# Altium schematic symbol library SCH - MCU - ATSAM - MICROCHIP SAMD11D14A-SSU SOIC20.SchLib: 1 symbol
Pins are listed as number, name and electrical type; pins without a type are passive.

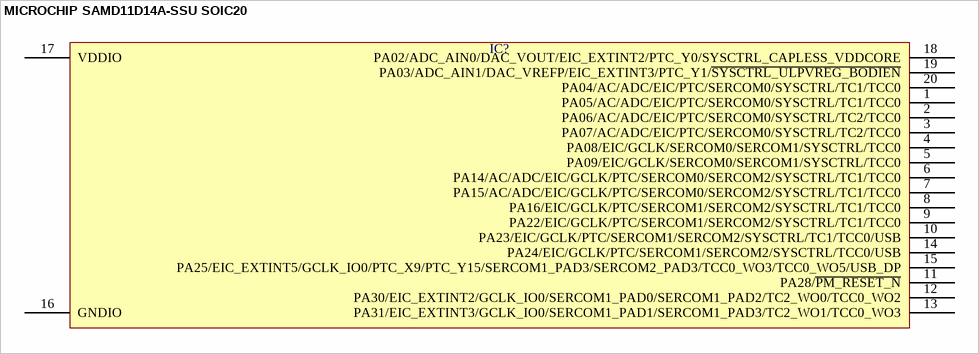
[diagram p0: symbol MICROCHIP SAMD11D14A-SSU SOIC20]

## MICROCHIP SAMD11D14A-SSU SOIC20
designator IC?  (value not drawn)
pins: 1 PA05/AC/ADC/EIC/PTC/SERCOM0/SYSCTRL/TC1/TCC0, 2 PA06/AC/ADC/EIC/PTC/SERCOM0/SYSCTRL/TC2/TCC0, 3 PA07/AC/ADC/EIC/PTC/SERCOM0/SYSCTRL/TC2/TCC0, 4 PA08/EIC/GCLK/SERCOM0/SERCOM1/SYSCTRL/TCC0, 5 PA09/EIC/GCLK/SERCOM0/SERCOM1/SYSCTRL/TCC0, 6 PA14/AC/ADC/EIC/GCLK/PTC/SERCOM0/SERCOM2/SYSCTRL/TC1/TCC0, 7 PA15/AC/ADC/EIC/GCLK/PTC/SERCOM0/SERCOM2/SYSCTRL/TC1/TCC0, 8 PA16/EIC/GCLK/PTC/SERCOM1/SERCOM2/SYSCTRL/TC1/TCC0, 9 PA22/EIC/GCLK/PTC/SERCOM1/SERCOM2/SYSCTRL/TC1/TCC0, 10 PA23/EIC/GCLK/PTC/SERCOM1/SERCOM2/SYSCTRL/TC1/TCC0/USB, 11 PA28/~{PM_RESET_N}, 12 PA30/EIC_EXTINT2/GCLK_IO0/SERCOM1_PAD0/SERCOM1_PAD2/TC2_WO0/TCC0_WO2, 13 PA31/EIC_EXTINT3/GCLK_IO0/SERCOM1_PAD1/SERCOM1_PAD3/TC2_WO1/TCC0_WO3, 14 PA24/EIC/GCLK/PTC/SERCOM1/SERCOM2/SYSCTRL/TCC0/USB, 15 PA25/EIC_EXTINT5/GCLK_IO0/PTC_X9/PTC_Y15/SERCOM1_PAD3/SERCOM2_PAD3/TCC0_WO3/TCC0_WO5/USB_DP, 16 GNDIO, 17 VDDIO, 18 PA02/ADC_AIN0/DAC_VOUT/EIC_EXTINT2/PTC_Y0/SYSCTRL_CAPLESS_VDDCORE, 19 PA03/ADC_AIN1/DAC_VREFP/EIC_EXTINT3/PTC_Y1/~{SYSCTRL_ULPVREG_BODIEN}, 20 PA04/AC/ADC/EIC/PTC/SERCOM0/SYSCTRL/TC1/TCC0